# Altium schematic symbol library RNMF14FTC270R.SchLib: 2 symbols
Pins are listed as number, name and electrical type; pins without a type are passive.

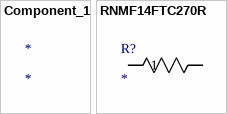
[diagram p0: symbols Component_1 to RNMF14FTC270R]

## Component_1
designator *
footprint STA_RNMF14_STP

## RNMF14FTC270R
designator R?
No Description Available; Mfr_Name: Stackpole International
footprint STA_RNMF14_STP
3D model Model Name (PCB3D Model)
pins: 1, 2